# EAGLE library part STPMIC1 (library Bits_library_eagle)
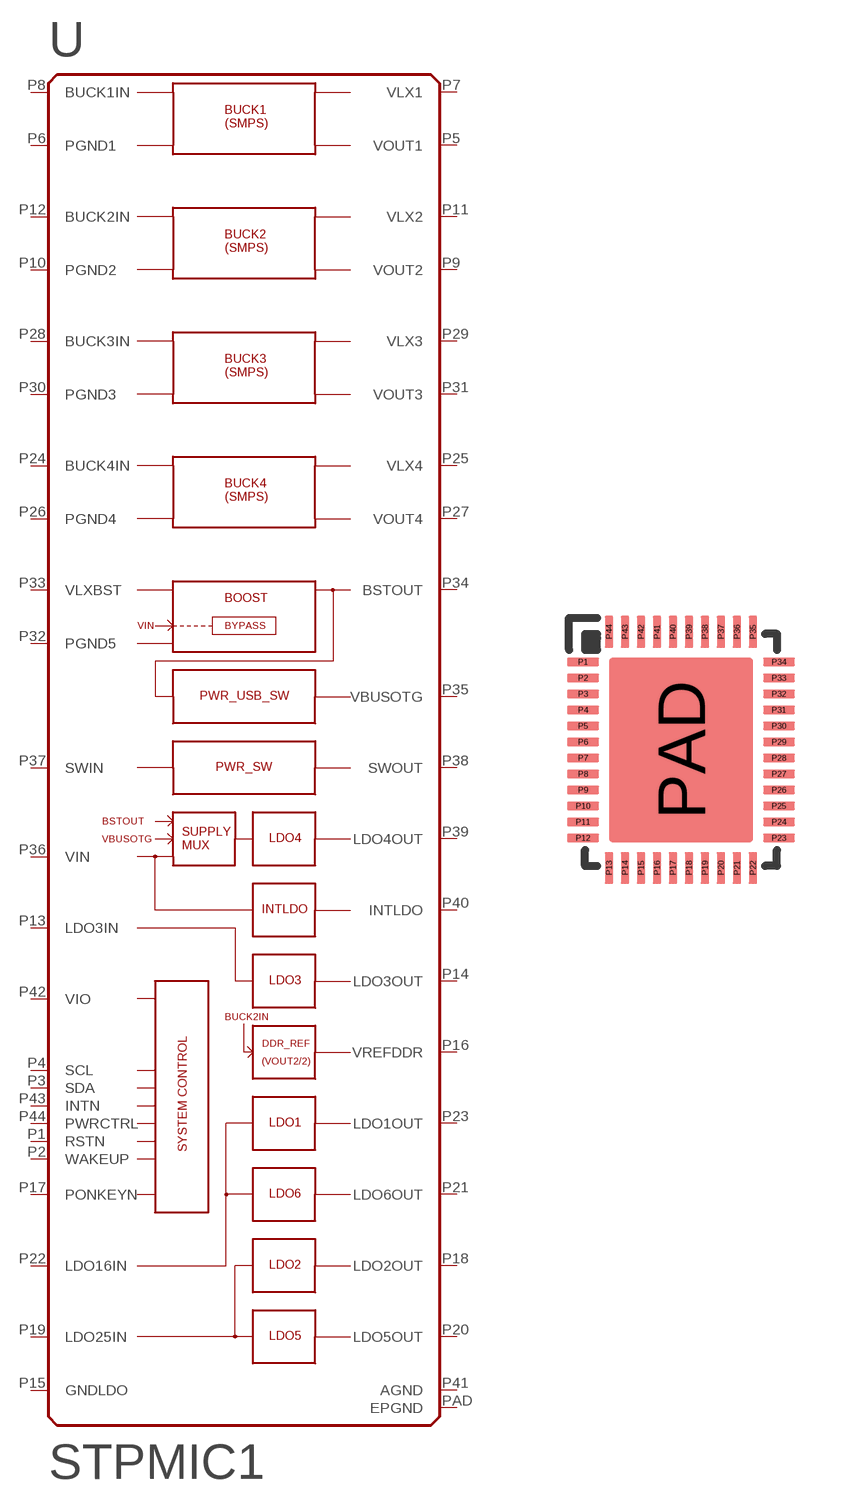
[diagram p44: symbol with the pads of WFQFN44L; footprint WFQFN44L]

Designator prefix -

## STPMIC1  [WFQFN44L]
P1  RSTN
P2  WAKEUP
P3  SDA
P4  SCL
P5  VOUT1  pwr
P6  PGND1  pwr
P7  VLX1  pas
P8  BUCK1IN  pwr
P9  VOUT2  pwr
P10  PGND2  pwr
P11  VLX2  pas
P12  BUCK2IN  pwr
P13  LDO3IN
P14  LDO3OUT
P15  GNDLDO
P16  VREFDDR
P17  PONKEYN
P18  LDO2OUT
P19  LDO25IN
P20  LDO5OUT
P21  LDO6OUT
P22  LDO16IN
P23  LDO1OUT
P24  BUCK4IN  pwr
P25  VLX4  pas
P26  PGND4  pwr
P27  VOUT4  pwr
P28  BUCK3IN  pwr
P29  VLX3  pas
P30  PGND3  pwr
P31  VOUT3  pwr
P32  PGND5  pwr
P33  VLXBST  pas
P34  BSTOUT  pwr
P35  VBUSOTG
P36  VIN
P37  SWIN
P38  SWOUT
P39  LDO4OUT
P40  INTLDO
P41  AGND
P42  VIO
P43  INTN
P44  PWRCTRL
PAD  EPGND

## Footprint WFQFN44L (pad centres in mm)
48-pin QFN 7 x 7 mm LF48 48 Quad Flat Package No Leads Source: http://v4.cypress.com/cfuploads/img/products/cywusb6934.pdf
smd 0.8 x 0.22: P1 -2.45,2.2; P2 -2.45,1.8; P3 -2.45,1.4; P4 -2.45,1; P5 -2.45,0.6; P6 -2.45,0.2; P7 -2.45,-0.2; P8 -2.45,-0.6; P9 -2.45,-1; P10 -2.45,-1.4; P11 -2.45,-1.8; P12 -2.45,-2.2; P23 2.45,-2.2; P24 2.45,-1.8; P25 2.45,-1.4; P26 2.45,-1; P27 2.45,-0.6; P28 2.45,-0.2; P29 2.45,0.2; P30 2.45,0.6; P31 2.45,1; P32 2.45,1.4; P33 2.45,1.8; P34 2.45,2.2
smd 0.22 x 0.8: P13 -1.8,-2.95; P14 -1.4,-2.95; P15 -1,-2.95; P16 -0.6,-2.95; P17 -0.2,-2.95; P18 0.2,-2.95; P19 0.6,-2.95; P20 1,-2.95; P21 1.4,-2.95; P22 1.8,-2.95; P35 1.8,2.95; P36 1.4,2.95; P37 1,2.95; P38 0.6,2.95; P39 0.2,2.95; P40 -0.2,2.95; P41 -0.6,2.95; P42 -1,2.95; P43 -1.4,2.95; P44 -1.8,2.95
smd 3.6 x 4.6: PAD 0,0